# Altium footprint library LIS2DW12-LowDens.PcbLib: 2 footprints
Each footprint in its own frame and in the unit in brackets; x right, y up, seen from the top. Pads: shape width x height; smd on the part's side, far side on the other; paste and mask are expansions set on the pad; w line width, h text height; cw(c..) or ccw(c..) is an arc to the next point about the centre after c.
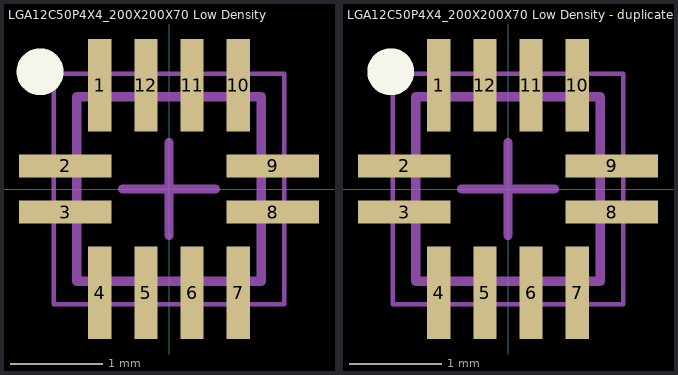
[diagram p0: the footprints below, top view; thin cyan lines are the x and y axes]

## LGA12C50P4X4_200X200X70 Low Density [mm] "LGA, 12-Leads, Body 2,00x2,00mmx0,70mm, Pitch 0,50mm"
height 0.7
pads (12):
  rect 0.25x1 smd: 1(-0.75,1.125) 4(-0.75,-1.125) 5(-0.25,-1.125) 6(0.25,-1.125) 7(0.75,-1.125) 10(0.75,1.125) 11(0.25,1.125) 12(-0.25,1.125)
  rect 1x0.25 smd: 2(-1.125,0.25) 3(-1.125,-0.25) 8(1.125,-0.25) 9(1.125,0.25)
Top Overlay:
  circle w0.254: c-1.397,1.27 r0.127
3D Top:
  lines w0.1: -1,-1 1,-1 1,1 -1,1 -1,-1
Courtyard Top:
  lines w0.05: -1.25,-1.25 1.25,-1.25 1.25,1.25 -1.25,1.25 -1.25,-1.25
  lines w0.1: -0.5,0 0.5,0 ; 0,-0.5 0,0.5
3D body: height 0.68, standoff -0.03, extent -1,-1 1,1

## LGA12C50P4X4_200X200X70 Low Density - duplicate [mm] "LGA, 12-Leads, Body 2,00x2,00mmx0,70mm, Pitch 0,50mm"
height 0.7
pads (12):
  rect 0.25x1 smd: 1(-0.75,1.125) 4(-0.75,-1.125) 5(-0.25,-1.125) 6(0.25,-1.125) 7(0.75,-1.125) 10(0.75,1.125) 11(0.25,1.125) 12(-0.25,1.125)
  rect 1x0.25 smd: 2(-1.125,0.25) 3(-1.125,-0.25) 8(1.125,-0.25) 9(1.125,0.25)
Top Overlay:
  circle w0.254: c-1.27,1.27 r0.127
3D Top:
  lines w0.1: -1,-1 -1,1 1,1 1,-1 -1,-1
Courtyard Top:
  lines w0.05: -1.25,-1.25 -1.25,1.25 1.25,1.25 1.25,-1.25 -1.25,-1.25
  lines w0.1: -0.5,0 0.5,0 ; 0,-0.5 0,0.5
3D body: height 0.68, standoff -0.03, extent -1,-1 1,1